# EAGLE library part MAX11646 (library quentin)
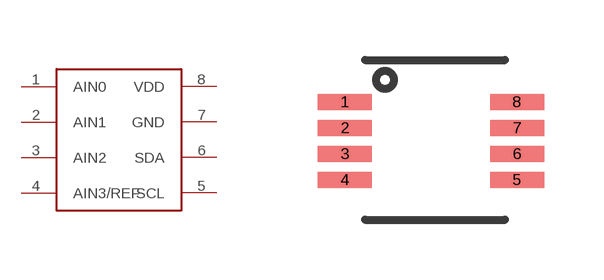
[diagram p5: symbol with the pads of UMAX-8; footprint UMAX-8]

Designator prefix -

## MAX11646  [UMAX-8]
1  AIN0
2  AIN1
3  AIN2
4  AIN3/REF
5  SCL
6  SDA
7  GND
8  VDD

## Footprint UMAX-8 (pad centres in mm)
smd 1.35 x 0.4: 1 0,1.95; 2 0,1.3; 3 0,0.65; 4 0,0; 5 4.3,0; 6 4.3,0.65; 7 4.3,1.3; 8 4.3,1.95